# Altium schematic symbol library CANBus.SchLib: 1 symbol
Pins are listed as number, name and electrical type; pins without a type are passive.

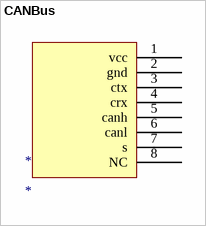
[diagram p0: symbol CANBus]

## CANBus
designator *
footprint CANBus
pins: 1 vcc, 2 gnd, 3 ctx, 4 crx, 5 canh, 6 canl, 7 s, 8 NC